# EAGLE library part WING8 (library Papilio)
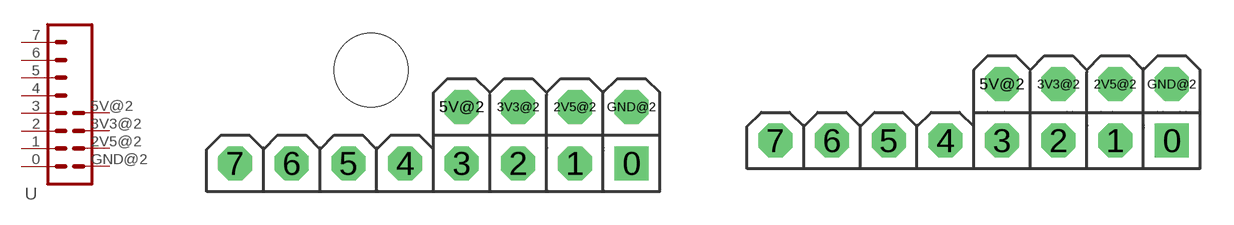
[diagram p6: symbol with the pads of WINGSIDE_8BIT; footprints WINGSIDE_8BIT, WINGSIDE_8BIT_NOHOLES]

Designator prefix -

## WING8  [WINGSIDE_8BIT]
0  1  pas
1  2  pas
2  3  pas
2V5@2  2V5  pas
3  4  pas
3V3@2  3V3  pas
4  5  pas
5  6  pas
5V@2  5V  pas
6  7  pas
7  8  pas
GND@2  GND  pas

## WING8WING8_NOHOLES  [WINGSIDE_8BIT_NOHOLES]
Pads as for WINGSIDE_8BIT

## Footprint WINGSIDE_8BIT (pad centres in mm)
drill 1.016 square: 0 19.05,1.27
drill 1.016 octagon: 1 16.51,1.27; 2 13.97,1.27; 2V5@2 16.51,3.81; 3 11.43,1.27; 3V3@2 13.97,3.81; 4 8.89,1.27; 5 6.35,1.27; 5V@2 11.43,3.81; 6 3.81,1.27; 7 1.27,1.27; GND@2 19.05,3.81
hole 3.302 at 7.366,5.461

## Footprint WINGSIDE_8BIT_NOHOLES (pad centres in mm)
drill 1.016 square: 0 19.05,1.27
drill 1.016 octagon: 1 16.51,1.27; 2 13.97,1.27; 2V5@2 16.51,3.81; 3 11.43,1.27; 3V3@2 13.97,3.81; 4 8.89,1.27; 5 6.35,1.27; 5V@2 11.43,3.81; 6 3.81,1.27; 7 1.27,1.27; GND@2 19.05,3.81